# Altium footprint library PcbLib1.PcbLib: 8 footprints
Each footprint in its own frame and in the unit in brackets; x right, y up, seen from the top. Pads: shape width x height; smd on the part's side, far side on the other; paste and mask are expansions set on the pad; w line width, h text height; cw(c..) or ccw(c..) is an arc to the next point about the centre after c.
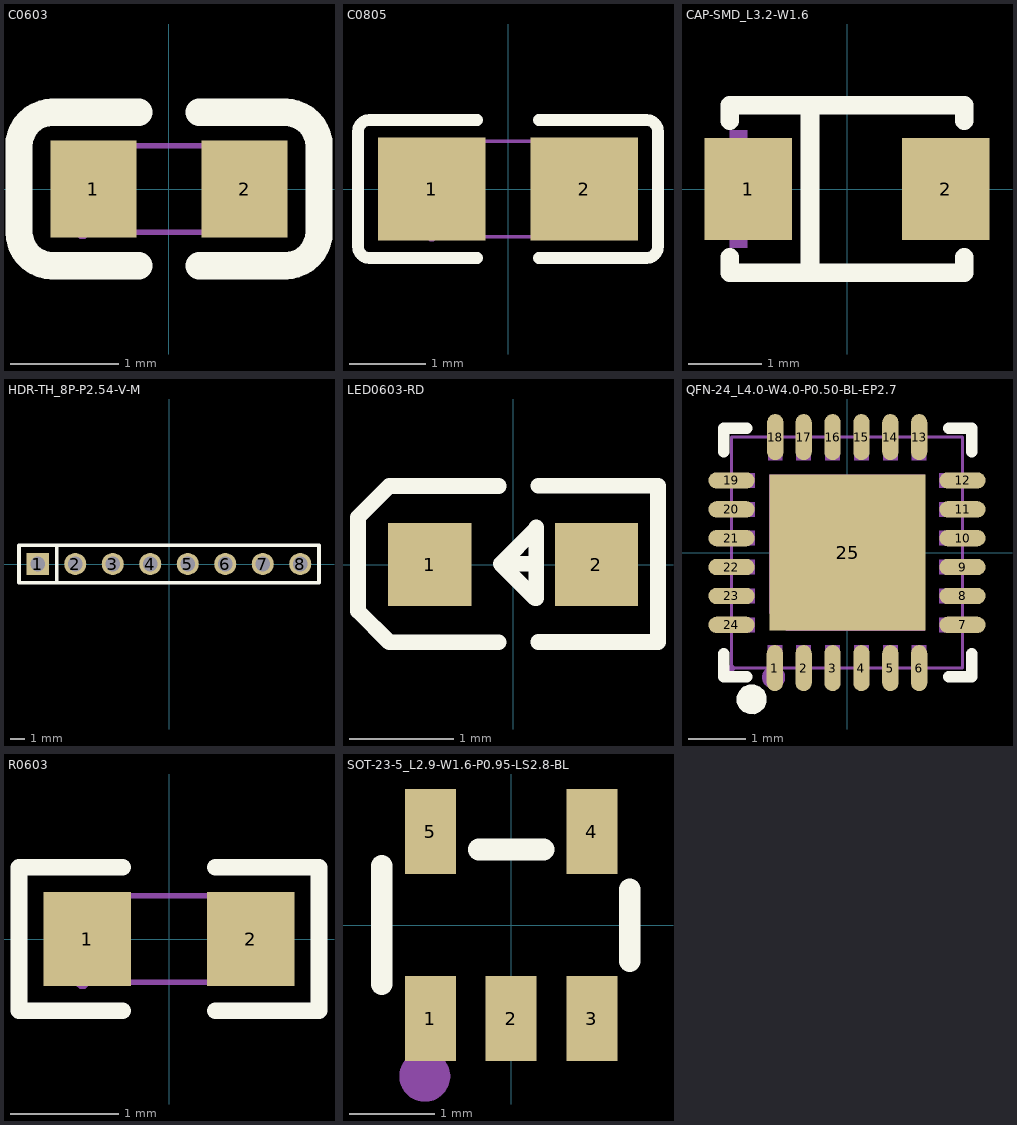
[diagram p0: the footprints below, top view; thin cyan lines are the x and y axes]

## C0603 [mm]
pads (2):
  rect 0.8x0.9 smd: 1(-0.7,0) 2(0.7,0)
Top Overlay:
  lines w0.254: -1.08,-0.71 -0.28,-0.71 ; -1.08,0.71 -0.28,0.71 ; -1.08,-0.71 cw(c-1.08,-0.4) -1.39,-0.4 -1.39,0.4 cw(c-1.08,0.4) -1.08,0.71 ; 0.28,-0.71 1.08,-0.71 ccw(c1.08,-0.4) 1.39,-0.4 1.39,0.4 ccw(c1.08,0.4) 1.08,0.71 0.28,0.71
Mechanical 15:
  region: 0.8,-0.4 0.8,0.4 0.5,0.4 0.5,-0.4
  region: -0.8,-0.4 -0.8,0.4 -0.5,0.4 -0.5,-0.4
  region: -0.74,-0.4 -0.74,-0.425 -0.775,-0.46 -0.825,-0.46 -0.86,-0.425 -0.86,-0.4 -0.86,-0.375 -0.825,-0.34 -0.775,-0.34 -0.74,-0.375
  lines w0.051: -0.8,-0.4 0.8,-0.4 0.8,0.4 -0.8,0.4 -0.8,-0.4
3D body "CC0603KRX7R9BB104.STEP": height 0.81, standoff 0.01, extent -0.8,-0.519 0.8,0.381

## C0805 [mm]
pads (2):
  rect 1.41x1.35 smd paste-100 mask+0.051: 1(-1,0) 2(1,0)
Top Overlay:
  lines w0.152: -0.401,-0.904 -1.811,-0.904 cw(c-1.811,-0.751) -1.964,-0.751 -1.964,0.751 cw(c-1.811,0.751) -1.811,0.904 -0.401,0.904 ; 0.401,-0.904 1.811,-0.904 ccw(c1.811,-0.751) 1.964,-0.751 1.964,0.751 ccw(c1.811,0.751) 1.811,0.904 0.401,0.904
Top Paste:
  region: -1.705,-0.64 -1.705,0.64 -1.655,0.69 -0.505,0.69 -0.455,0.64 -0.45,0.23 -0.9,0.23 -0.9,-0.22 -0.46,-0.22 -0.455,-0.64 -0.505,-0.69 -1.655,-0.69
  region: 1.705,0.64 1.705,-0.64 1.655,-0.69 0.505,-0.69 0.455,-0.64 0.45,-0.23 0.9,-0.23 0.9,0.22 0.46,0.22 0.455,0.64 0.505,0.69 1.655,0.69
Mechanical 15:
  region: -0.94,-0.625 -0.94,-0.65 -0.975,-0.685 -1.025,-0.685 -1.06,-0.65 -1.06,-0.625 -1.06,-0.6 -1.025,-0.565 -0.975,-0.565 -0.94,-0.6
  region: -1,-0.625 -1,0.625 -0.5,0.625 -0.5,-0.625
  region: 1,0.625 1,-0.625 0.5,-0.625 0.5,0.625
  lines w0.051: -1,-0.625 -1,0.625 1,0.625 1,-0.625 -1,-0.625
3D body "CL21C222JBFNNNE.STEP": height 1.26, standoff 0.01, extent -1,-0.715 1,0.635

## CAP-SMD_L3.2-W1.6 [mm]
pads (2):
  rect 1.2x1.4 smd paste+0 mask+0.051: 1(-1.35,0) 2(1.35,0)
Top Overlay:
  region: -0.635,1.143 -0.381,1.143 -0.381,-1.143 -0.508,-1.143 -0.635,-1.143
  lines w0.254: -1.6,-0.931 -1.6,-1.143 -0.128,-1.143 1.6,-1.143 1.6,-0.931 ; -1.6,0.931 -1.6,1.143 1.6,1.143 1.6,0.931
Mechanical 15:
  region: 1.48,0.06 1.48,-0.06 1,-0.06 1,0.06
  region: -1.48,0.06 -1.48,-0.06 -1,-0.06 -1,0.06
  region: -1.3,0.4 -1.3,-0.4 -1.18,-0.4 -1.18,0.4
  region: -1.6,0.8 -1.6,0.4 -1.36,0.4 -1.36,0.8
  region: -1.6,-0.8 -1.6,-0.4 -1.36,-0.4 -1.36,-0.8
3D body "TPSA106K016R1000.STEP": height 1.8, standoff 0, extent -1.6,-0.8 1.6,0.8

## HDR-TH_8P-P2.54-V-M [mm]
pads (8):
  rect 1.5x1.5 hole 1 paste-2539.97 mask+0.051: 1(-8.89,0)
  round 1.5 hole 1 paste-2539.97 mask+0.051: 2(-6.35,0) 3(-3.81,0) 4(-1.27,0) 5(1.27,0) 6(3.81,0) 7(6.35,0) 8(8.89,0)
Top Overlay:
  lines w0.254: -7.596,-1.27 -7.596,1.27 ; -10.16,-1.27 -10.16,1.27 10.16,1.27 10.16,-1.27 -10.16,-1.27
3D body "TS-108-T-A-1.stp": height 8.28, standoff -5.18, extent -10.135,-1.27 10.389,1.27

## LED0603-RD [mm]
pads (2):
  rect 0.8x0.8 smd paste+0 mask+0.051: 1(-0.799,0) 2(0.799,0)
Top Overlay:
  lines w0.15: -0.14,-0.746 -1.19,-0.746 -1.49,-0.446 -1.49,-0.346 -1.49,0.354 -1.49,0.454 -1.19,0.754 -0.14,0.754 ; 0.22,0.007 -0.12,0.007 ; 0.24,-0.744 1.39,-0.744 ; 0.24,0.757 1.39,0.757 1.39,-0.723 ; -0.12,0.007 0.22,0.347 0.22,0.357 0.22,-0.324 0.21,-0.324 -0.12,0.007
Mechanical 15:
  region: 0.529,0.068 1.069,0.068 1.069,-0.062 0.529,-0.062
  region: 0.735,-0.267 0.735,0.273 0.865,0.273 0.865,-0.267
  region: -1.07,0.062 -0.53,0.062 -0.53,-0.068 -1.07,-0.068
3D body "19-217_R6C-AL1M2VY_3T.STEP": height 0.5, standoff 0, extent -0.8,-0.4 0.8,0.4

## QFN-24_L4.0-W4.0-P0.50-BL-EP2.7 [mm]
pads (25):
  oval 0.28x0.8 smd paste-100 mask+0.05: 1(-1.25,-2) 2(-0.75,-2) 4(0.25,-2) 5(0.75,-2) 6(1.25,-2) 13(1.25,2) 14(0.75,2) 15(0.25,2) 16(-0.25,2) 17(-0.75,2) 18(-1.242,2)
  oval 0.28x0.8 smd paste+0 mask+0.05: 3(-0.25,-2)
  oval 0.8x0.28 smd paste-100 mask+0.05: 7(2,-1.25) 8(2,-0.75) 9(2,-0.25) 10(2,0.25) 11(2,0.75) 12(2,1.25) 19(-2,1.25) 20(-2,0.75) 22(-2,-0.25) 23(-2,-0.75) 24(-2,-1.25)
  oval 0.8x0.28 smd paste+0 mask+0.05: 21(-2,0.25)
  rect 2.7x2.7 smd paste-100 mask+0.05: 25(0.012,0)
Top Overlay:
  region: -1.397,-2.539 -1.397,-2.488 -1.436,-2.395 -1.508,-2.324 -1.601,-2.286 -1.702,-2.286 -1.795,-2.325 -1.866,-2.396 -1.905,-2.49 -1.905,-2.54 -1.905,-2.59 -1.866,-2.684 -1.795,-2.755 -1.702,-2.794 -1.601,-2.794 -1.508,-2.756 -1.436,-2.685 -1.397,-2.592 -1.397,-2.541
  lines w0.2: -2.138,-1.75 -2.138,-2.15 -1.738,-2.15 ; -2.138,1.75 -2.138,2.15 -1.738,2.15 ; 1.763,-2.15 2.163,-2.15 2.163,-1.75 ; 1.763,2.15 2.163,2.15 2.163,1.75
Top Paste:
  drawing of 25 lines, arcs and shapes, not listed
Mechanical 6:
  circle w0.2: c-1.27,-2.159 r0.1
Mechanical 15:
  region: -1.94,-2 -1.94,-2.025 -1.975,-2.06 -2.025,-2.06 -2.06,-2.025 -2.06,-2 -2.06,-1.975 -2.025,-1.94 -1.975,-1.94 -1.94,-1.975
  region: -1.35,-1.05 -1.35,1.35 1.35,1.35 1.35,-1.35 -1.05,-1.35
  region: -2,-1.375 -2,-1.125 -1.6,-1.125 -1.6,-1.375
  region: -2,-0.875 -2,-0.625 -1.6,-0.625 -1.6,-0.875
  region: -2,-0.375 -2,-0.125 -1.6,-0.125 -1.6,-0.375
  region: -2,0.125 -2,0.375 -1.6,0.375 -1.6,0.125
  region: -2,0.625 -2,0.875 -1.6,0.875 -1.6,0.625
  region: -2,1.125 -2,1.375 -1.6,1.375 -1.6,1.125
  region: -1.367,1.6 -1.367,2 -1.117,2 -1.117,1.6
  region: -0.875,1.6 -0.875,2 -0.625,2 -0.625,1.6
  region: -0.375,1.6 -0.375,2 -0.125,2 -0.125,1.6
  region: 0.125,1.6 0.125,2 0.375,2 0.375,1.6
  region: 0.625,1.6 0.625,2 0.875,2 0.875,1.6
  region: 1.125,1.6 1.125,2 1.375,2 1.375,1.6
  region: 1.6,1.125 1.6,1.375 2,1.375 2,1.125
  region: 1.6,0.625 1.6,0.875 2,0.875 2,0.625
  region: 1.6,0.125 1.6,0.375 2,0.375 2,0.125
  region: 1.6,-0.375 1.6,-0.125 2,-0.125 2,-0.375
  region: 1.6,-0.875 1.6,-0.625 2,-0.625 2,-0.875
  region: 1.6,-1.375 1.6,-1.125 2,-1.125 2,-1.375
  region: 1.125,-2 1.125,-1.6 1.375,-1.6 1.375,-2
  region: 0.625,-2 0.625,-1.6 0.875,-1.6 0.875,-2
  region: 0.125,-2 0.125,-1.6 0.375,-1.6 0.375,-2
  region: -0.375,-2 -0.375,-1.6 -0.125,-1.6 -0.125,-2
  region: -0.875,-2 -0.875,-1.6 -0.625,-1.6 -0.625,-2
  region: -1.375,-2 -1.375,-1.6 -1.125,-1.6 -1.125,-2
  lines w0.051: -2,-2 -2,2 2,2 2,-2 -2,-2
3D body "MPU-6050.STEP": height 0.93, standoff -0.02, extent -1.968,-2 2.032,2

## R0603 [mm]
pads (2):
  rect 0.806x0.864 smd paste-100 mask+0.051: 1(-0.753,0) 2(0.753,0)
Top Overlay:
  lines w0.152: -0.426,-0.661 -1.385,-0.661 -1.385,0.661 -0.426,0.661 ; 0.426,-0.661 1.385,-0.661 1.385,0.661 0.426,0.661
Top Paste:
  region: 1.195,0.45 0.395,0.45 0.345,0.4 0.345,0.172 0.715,0.172 0.715,-0.158 0.345,-0.158 0.345,-0.4 0.395,-0.45 1.195,-0.45 1.245,-0.4 1.245,0.4
  region: -1.195,-0.45 -0.395,-0.45 -0.345,-0.4 -0.345,-0.172 -0.715,-0.172 -0.715,0.158 -0.345,0.158 -0.345,0.4 -0.395,0.45 -1.195,0.45 -1.245,0.4 -1.245,-0.4
Mechanical 15:
  region: -0.74,-0.4 -0.74,-0.425 -0.775,-0.46 -0.825,-0.46 -0.86,-0.425 -0.86,-0.4 -0.86,-0.375 -0.825,-0.34 -0.775,-0.34 -0.74,-0.375
  region: -0.8,-0.4 -0.8,0.4 -0.5,0.4 -0.5,-0.4
  region: 0.8,-0.4 0.8,0.4 0.5,0.4 0.5,-0.4
  lines w0.051: -0.8,-0.4 -0.8,0.4 0.8,0.4 0.8,-0.4 -0.8,-0.4
3D body "RC0603FR-074K7L.STEP": height 0.55, standoff 0, extent -0.8,-0.4 0.8,0.4

## SOT-23-5_L2.9-W1.6-P0.95-LS2.8-BL [mm]
pads (5):
  rect 0.6x1 smd paste+0 mask+0.05: 1(-0.95,-1.1) 2(0,-1.1) 3(0.95,-1.1) 4(0.95,1.1) 5(-0.95,1.1)
Top Overlay:
  lines w0.254: -1.524,-0.699 -1.524,0.699 ; -0.381,0.889 0.381,0.889 ; 1.397,-0.422 1.397,0.422
Mechanical 15:
  circle w0.3: c-1.016,-1.778 r0.15
3D body "RT9193-33GB--3DModel-STEP-56544.STEP": height 1.3, standoff 0, extent -1.498,-1.397 1.397,1.397